# EAGLE library part BESC30-R1 (library parts)
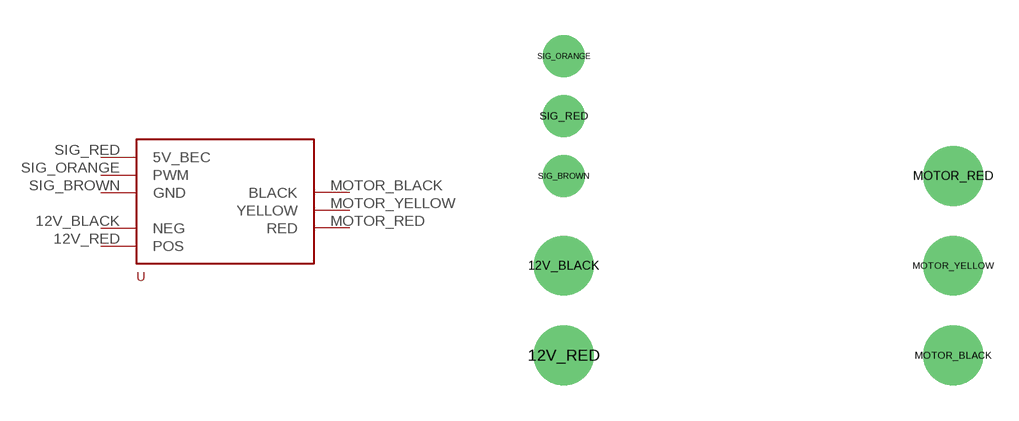
[diagram p1: symbol with the pads of BESC30-R1; footprint BESC30-R1]

Designator prefix -

## BESC30-R1  [BESC30-R1]
12V_BLACK  NEG
12V_RED  POS
MOTOR_BLACK  BLACK
MOTOR_RED  RED
MOTOR_YELLOW  YELLOW
SIG_BROWN  GND
SIG_ORANGE  PWM
SIG_RED  5V_BEC

## Footprint BESC30-R1 (pad centres in mm)
drill 1.1 pad 2.54: 12V_BLACK -5.08,0; 12V_RED -5.08,-3.81
drill 1 pad 2.54: MOTOR_BLACK 11.43,-3.81; MOTOR_RED 11.43,3.81; MOTOR_YELLOW 11.43,0
drill 0.8 pad 1.778: SIG_BROWN -5.08,3.81; SIG_ORANGE -5.08,8.89; SIG_RED -5.08,6.35